# Altium schematic symbol library LevelShifter_UART_TI_TXS0102.SchLib: 1 symbol
Pins are listed as number, name and electrical type; pins without a type are passive.

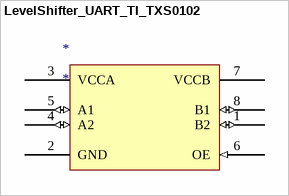
[diagram p0: symbol LevelShifter_UART_TI_TXS0102]

## LevelShifter_UART_TI_TXS0102
designator *
pins: 1 B2 (io), 2 GND (power), 3 VCCA (power), 4 A2 (io), 5 A1 (io), 6 OE (in), 7 VCCB (power), 8 B1 (io)